# EAGLE library part TIR1000 (library newchips)
TI STANDALONE IrDA ENCODER AND DECODER
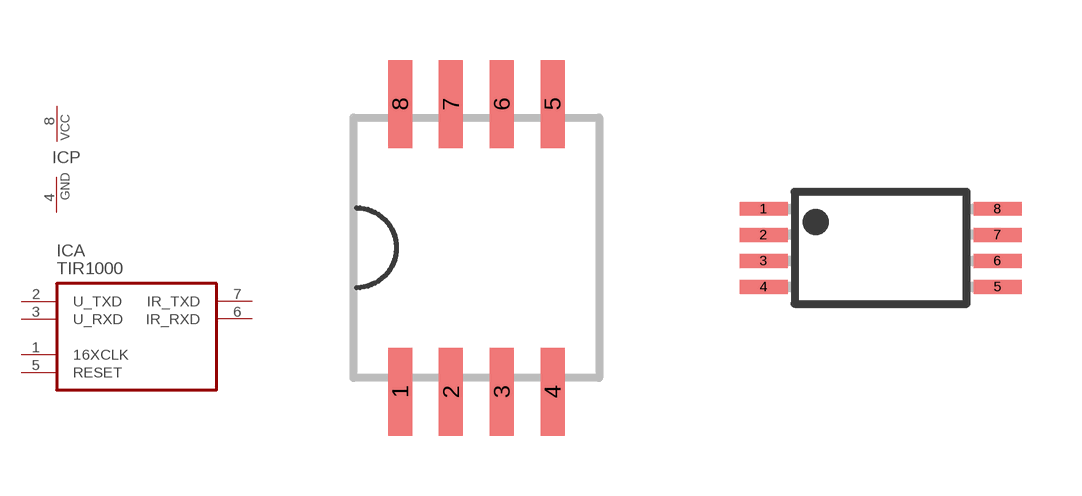
[diagram p16: symbol with the pads of SOP08; footprints SOP08, TSSOP08]

Designator prefix IC; gates A=TIR1000 P=PWRN

## TIR1000PS  [SOP08]
1  A:16XCLK  in
2  A:U_TXD  in
3  A:U_RXD  out
4  P:GND  pwr
5  A:RESET  in
6  A:IR_RXD  in
7  A:IR_TXD  out
8  P:VCC  pwr

## TIR1000PW  [TSSOP08]
Pads as for SOP08

## Footprint SOP08 (pad centres in mm)
smd 0.6 x 2.2: 1 -1.905,-3.6; 2 -0.635,-3.6; 3 0.635,-3.6; 4 1.905,-3.6; 5 1.905,3.6; 6 0.635,3.6; 7 -0.635,3.6; 8 -1.905,3.6

## Footprint TSSOP08 (pad centres in mm)
smd 1.2 x 0.35: 1 -2.925,0.975; 2 -2.925,0.325; 3 -2.925,-0.325; 4 -2.925,-0.975; 5 2.925,-0.975; 6 2.925,-0.325; 7 2.925,0.325; 8 2.925,0.975